# Altium schematic symbol library Flip-Flops.SchLib: 1 symbol
Pins are listed as number, name and electrical type; pins without a type are passive.

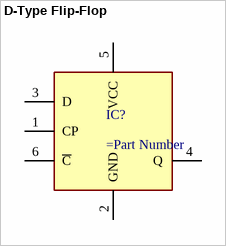
[diagram p0: symbol D-Type Flip-Flop]

## D-Type Flip-Flop
designator IC?
pins: 1 CP, 2 GND, 3 D, 4 Q, 5 VCC, 6 ~{C}